# EAGLE library part LTC1440 (library noah)
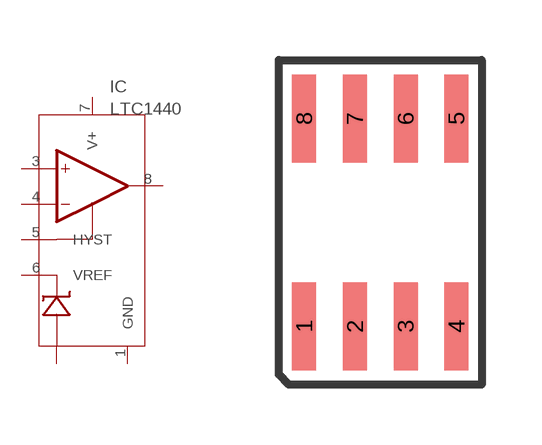
[diagram p49: symbol with the pads of SO8; footprint SO8]

Designator prefix IC

## LTC1440  [SO8]
1  GND  pwr
2  V-  pas
3  +IN  in
4  -IN  in
5  HYST  in
6  VREF  pas
7  V+  pwr
8  OUT  out

## Footprint SO8 (pad centres in mm)
SMALL OUTLINE INTEGRATED CIRCUIT SOP-8L Source: http://www.diodes.com/datasheets/ds31262.pdf
smd 0.6 x 2.2: 1 -1.905,-2.6; 2 -0.635,-2.6; 3 0.635,-2.6; 4 1.905,-2.6; 5 1.905,2.6; 6 0.635,2.6; 7 -0.635,2.6; 8 -1.905,2.6